# EAGLE library part ESP-BOARD (library ESPStack-mini)
STANDARIZED ESP-STACK BOARD
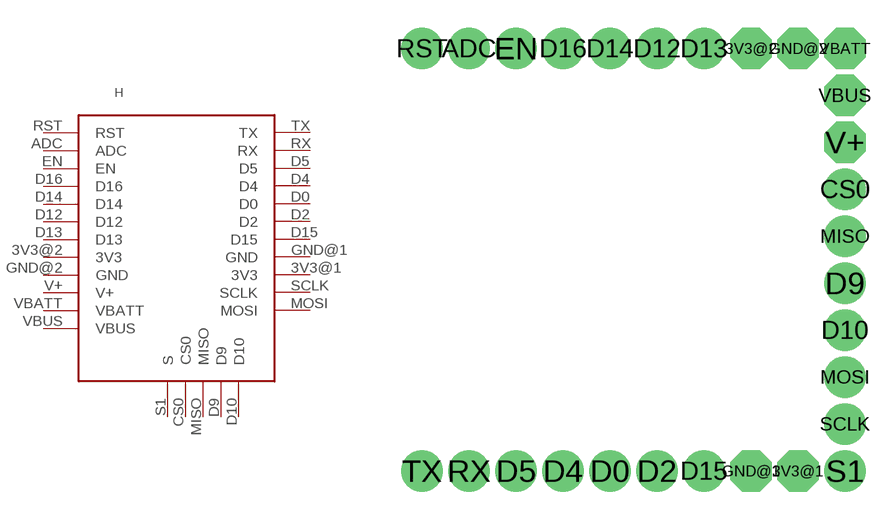
[diagram p1: symbol with the pads of ESP-BOARD; footprint ESP-BOARD]

Designator prefix H

## ESP-BOARD  [ESP-BOARD]
3V3@1  3V3  pwr
3V3@2  3V3  pwr
ADC  ADC
CS0  CS0
D0  D0
D2  D2
D4  D4
D5  D5
D9  D9
D10  D10
D12  D12
D13  D13
D14  D14
D15  D15
D16  D16
EN  EN
GND@1  GND  pwr
GND@2  GND  pwr
MISO  MISO
MOSI  MOSI
RST  RST
RX  RX
S1  S
SCLK  SCLK
TX  TX
V+  V+  pwr
VBATT  VBATT  pwr
VBUS  VBUS  pwr

## Footprint ESP-BOARD (pad centres in mm)
drill 1.5 pad 2.184 octagon: 3V3@1 21.59,1.27; 3V3@2 19.05,24.13; GND@1 19.05,1.27; GND@2 21.59,24.13; V+ 24.13,19.05; VBATT 24.13,24.13; VBUS 24.13,21.59
drill 1.5 pad 2.184: ADC 3.81,24.13; CS0 24.13,16.51; D0 11.43,1.27; D2 13.97,1.27; D4 8.89,1.27; D5 6.35,1.27; D9 24.13,11.43; D10 24.13,8.89; D12 13.97,24.13; D13 16.51,24.13; D14 11.43,24.13; D15 16.51,1.27; D16 8.89,24.13; EN 6.35,24.13; MISO 24.13,13.97; MOSI 24.13,6.35; RX 3.81,1.27; S1 24.13,1.27; SCLK 24.13,3.81; TX 1.27,1.27
drill 1.5 pad 1.93: RST 1.27,24.13